# Altium schematic symbol library MEMSIC 3-Axis Magnetometer.SchLib: 1 symbol
Pins are listed as number, name and electrical type; pins without a type are passive.

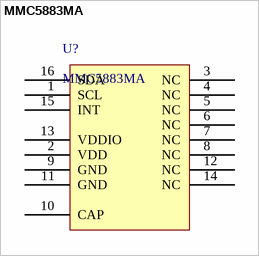
[diagram p0: symbol MMC5883MA]

## MMC5883MA
designator U?
3-axis Magnetic Sensor
footprint LGA16 (LGA package)
pins: 1 SCL, 2 VDD, 3 NC, 4 NC, 5 NC, 6 NC, 7 NC, 8 NC, 9 GND, 10 CAP, 11 GND, 12 NC, 13 VDDIO, 14 NC, 15 INT, 16 SDA